# Altium integrated library CRCW020127R0FNED.IntLib: 1 symbol
Pins are listed as number, name and electrical type; pins without a type are passive.

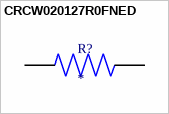
[diagram p0: symbol CRCW020127R0FNED]

## CRCW020127R0FNED
designator R?
Res Thick Film 0201 27 Ohm 1% 0.05W(1/20W) Â±200ppm/C Pad SMD T/R; MP: CRCW020127R0FNED; Package: None; Price: None; Value: *; Availability: Unavailable
footprint RESC0603X28N
pins: 1, 2